# EAGLE library part LEDVOLTMETER_REF3220 (library icboard)
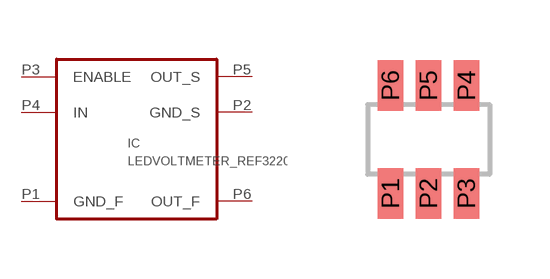
[diagram p1: symbol with the pads of LEDVOLTMETER_REF3220; footprint LEDVOLTMETER_REF3220]

Designator prefix IC

## LEDVOLTMETER_REF3220  [LEDVOLTMETER_REF3220]
P1  GND_F
P2  GND_S
P3  ENABLE
P4  IN
P5  OUT_S
P6  OUT_F

## Footprint LEDVOLTMETER_REF3220 (pad centres in mm)
smd 0.635 x 1.27: P1 0,-1.35; P2 0.95,-1.35; P3 1.9,-1.35; P4 1.9,1.35; P5 0.95,1.35; P6 0,1.35